# Altium footprint library Molex Microfit 3.0 3x2.PcbLib: 1 footprints
Each footprint in its own frame and in the unit in brackets; x right, y up, seen from the top. Pads: shape width x height; smd on the part's side, far side on the other; paste and mask are expansions set on the pad; w line width, h text height; cw(c..) or ccw(c..) is an arc to the next point about the centre after c.
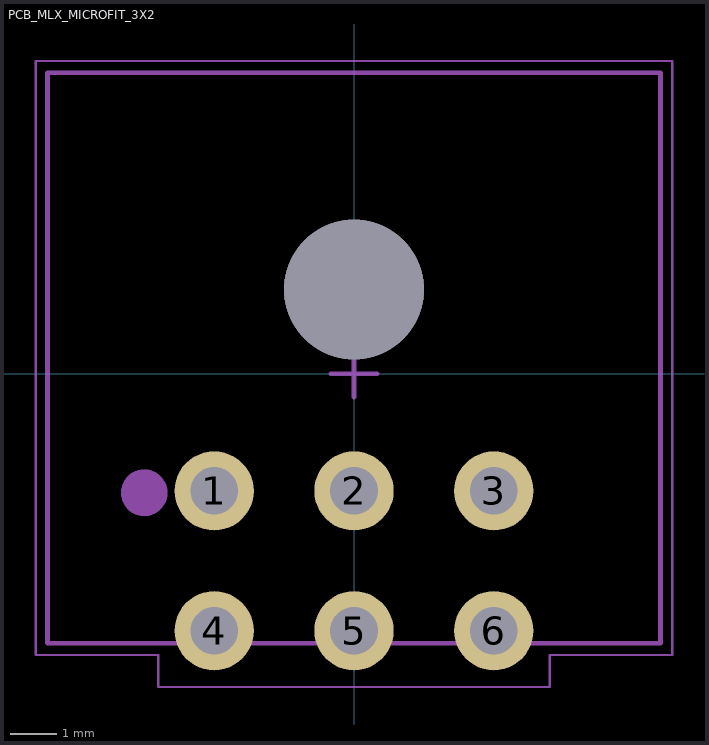
[diagram p0: the footprint, top view; thin cyan lines are the x and y axes]

## PCB_MLX_MICROFIT_3X2 [mm]
pads (7):
  round 1.7 hole 1.02: 1(-3,-2.51) 2(0,-2.51) 3(3,-2.51) 4(-3,-5.51) 5(0,-5.51) 6(3,-5.51)
  round 3 hole 3 unplated: ""(0,1.81)
Mechanical 6:
  text "'.Designator'" at -0.925,-0.3 h0.6
Mechanical 8:
  circle w0.5: c-4.5,-2.55 r0.25
  lines w0.05: -6.825,-6.03 -4.2,-6.03 -4.2,-6.715 4.2,-6.715 4.2,-6.03 6.825,-6.03 6.825,6.71 -6.825,6.71 -6.825,-6.03
Mechanical 13:
  lines w0.1: -6.575,-5.78 6.575,-5.78 6.575,6.46 -6.575,6.46 -6.575,-5.78
Mechanical 15:
  lines w0.05: -6.825,-6.03 -6.825,6.71 6.825,6.71 6.825,-6.03 4.2,-6.03 4.2,-6.715 -4.2,-6.715 -4.2,-6.03 -6.825,-6.03
  lines w0.1: -0.5,0 0.5,0 ; 0,-0.5 0,0.5
3D body "MLX_MICROFIT_3X2.stp": height 8.83, standoff -3.12, extent -6.575,-5.78 6.575,6.46